# EAGLE library part AT25SF128A_UDFN (library FLASHMemory)
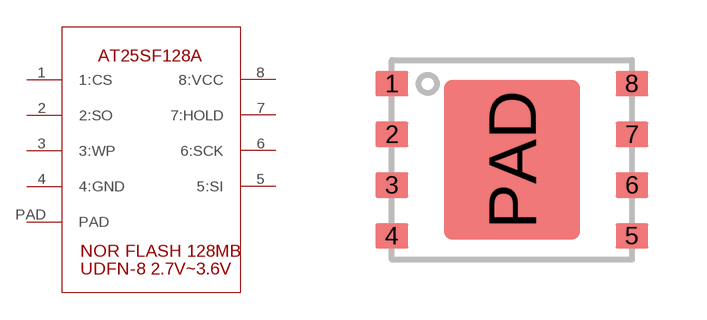
[diagram p1: symbol with the pads of AT25SF128A_UDFN; footprint AT25SF128A_UDFN]

Designator prefix -

## AT25SF128A_UDFN  [AT25SF128A_UDFN]
1  1:CS
2  2:SO
3  3:WP
4  4:GND
5  5:SI
6  6:SCK
7  7:HOLD
8  8:VCC
PAD  PAD

## Footprint AT25SF128A_UDFN (pad centres in mm)
smd 0.82 x 0.635: 1 -3,1.905; 2 -3,0.635; 3 -3,-0.635; 4 -3,-1.905; 5 3,-1.905; 6 3,-0.635; 7 3,0.635; 8 3,1.905
smd 3.4 x 4: PAD 0,0